# Altium schematic symbol library SCH - POWER - SWITCHMODE - MAXIM MAX15062BATA.SCHLIB: 1 symbol
Pins are listed as number, name and electrical type; pins without a type are passive.

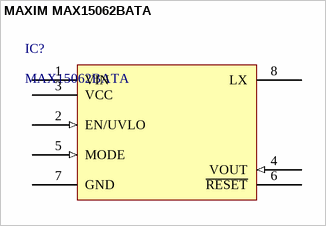
[diagram p0: symbol MAXIM MAX15062BATA]

## MAXIM MAX15062BATA
designator IC?, comment MAX15062BATA
60V, 300mA, Ultra-Small, High-Efficiency, Synchronous Step-Down DC-DC Converters; Manufacturer: Maxim; Manufacturer Part Number: MAX15062BATA+T; Output Voltage: 5V; Min Input Voltage: 4.5V; Number of Outputs: 1; Switching Frequency: 500kHz; Nominal Supply Current: 2.5mA; Synchronous Rectifier: Yes; Output Type: Fixed; Output Configuration: Positive; Part Number: MAX15062BATA; RoHS: Yes; Category: Power Supply Modules; Pricing 1: 2500=1,20244, 5000=1,16904, 10000=1,13744, 15000=1,10751, 25000=1,07911 (USD); Mount: Surface Mount; Case/Package: WFDFN; Number of Pins: 8; Min Operating Temperature: -40°C; Max Operating Temperature: 125°C; Max Input Voltage: 60V; Output Current: 300mA; Packaging: Tape and Reel; Package Quantity: 2500; Min Supply Voltage: 4.5V; Min Output Voltage: 5V; Max Supply Voltage: 60V; Radiation Hardening: No; REACH SVHC: Unknown; ComponentLink1URL: https://datasheet.ciiva.com/2039/max15062-2039291.pdf?src-supplier=Digi-Key; ComponentLink1Description: https://datasheet.ciiva.com/2039/max15062-2039291.pdf?src-supplier=Digi-Key; Supplier 1: Avnet; Supplier 2: Avnet; Supplier Part Number 1: MAX15062BATA+T; Supplier Part Number 2: MAX15062BATA+
footprint MAXIM TDFN-8 T822CN+1 (TDFN, 8-Leads, Body 2,00x2,00mm, Pitch 0,50mm, IPC Medium Density)
pins: 1 VIN (power) "Switching Regulator Power Input. Connect a X7R 1µF ceramic capacitor from V IN to GND for bypassing.", 2 EN/UVLO (in) "Active-High, Enable/Undervoltage-Detection Input. Pull EN/UVLO to GND to disable the regulator output. Connect EN/UVLO to V IN for always-on operation. Connect a resistor-divider between V IN and EN/UVLO to GND to program the input voltage at which the device is enabled and turns on.", 3 VCC (power) "Internal LDO Power Output. Bypass V CC to GND with a minimum 1µF capacitor.", 4 VOUT (in) "Feedback Input. For fixed output voltage versions, connect FB/V OUT directly to the output. For the adjustable output voltage version, connect FB/V OUT to a resistor-divider between V OUT and GND to adjust the output voltage from 0.9V to 0.89 x V IN .", 5 MODE (in) "PFM/PWM Mode Selection Input. Connect MODE to GND to enable the fixed-frequency PWM operation. Leave unconnected for light-load PFM operation.", 6 ~{RESET} (oc) "Open-Drain Reset Output. Pull up RESET to an external power supply with an external resistor. RESET goes low when the output voltage drops below 92% of the set nominal regulated voltage. RESET goes high impedance 2ms after the output voltage rises above 95% of its regulation value. See the Electrical Characteristics table for threshold values.", 7 GND (power) "Ground. Connect GND to the power ground plane. Connect all the circuit ground connections together at a single point. See the PCB Layout Guidelines section.", 8 LX (power) "Inductor Connection. Connect LX to the switching side of the inductor. LX is high impedance when the device is in shutdown."